# EAGLE library part LV8548 (library sduino)
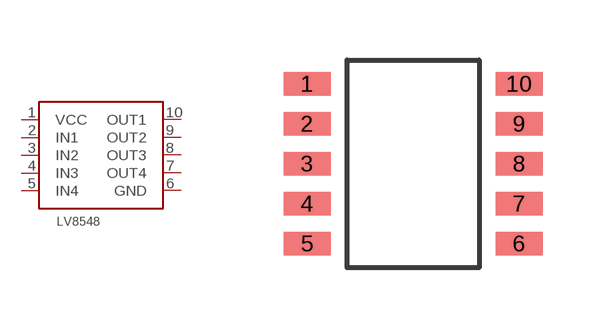
[diagram p0: symbol with the pads of LV8548; footprint LV8548]

Designator prefix -

## LV8548  [LV8548]
1  VCC
2  IN1
3  IN2
4  IN3
5  IN4
6  GND
7  OUT4
8  OUT3
9  OUT2
10  OUT1

## Footprint LV8548 (pad centres in mm)
smd 1.18 x 0.58: 1 -1,4.6; 2 -1,3.6; 3 -1,2.6; 4 -1,1.6; 5 -1,0.6; 6 4.3,0.6; 7 4.3,1.6; 8 4.3,2.6; 9 4.3,3.6; 10 4.3,4.6